# Altium schematic symbol library IoT-A28LI V1.00.SCHLIB: 49 symbols
Pins are listed as number, name and electrical type; pins without a type are passive.

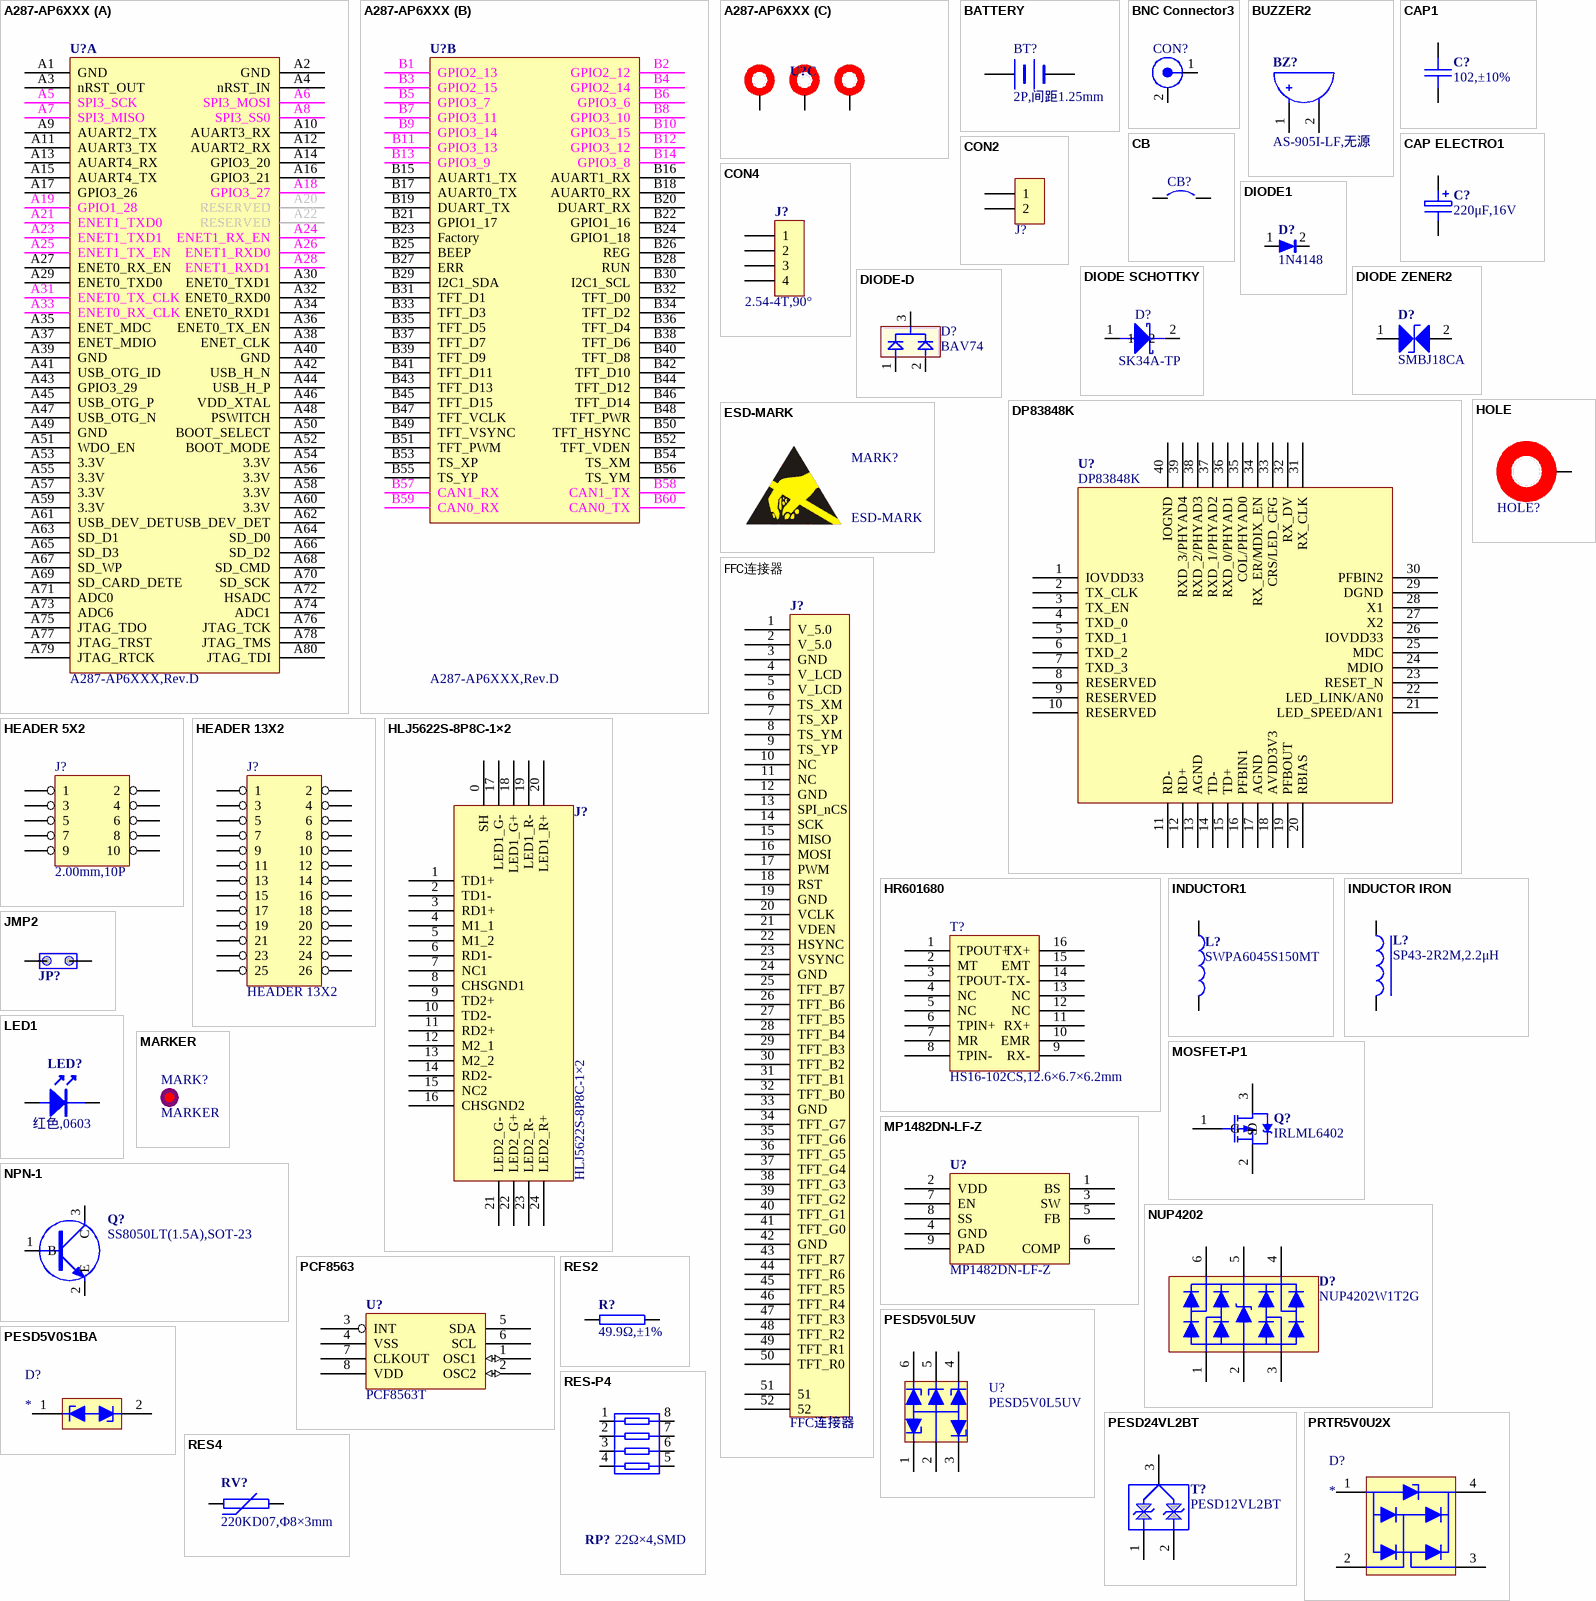
[diagram p0: symbols A287-AP6XXX to RES-P4]

## A287-AP6XXX
designator U?  value A287-AP6XXX,Rev.D  (hidden comment: A287-AP6XXX)
A287-AP6XXX,Rev.D,L6,1.6×30×48,F4-140,IG,1@3; 物料代码: 1.14.18.0163; 名称: PCB; RoHS: RoHS; 型号: A287-AP6XXX,Rev.D; 器件优选方案: *; ComponentLink1Description: ErpDataInfo; ComponentLink1URL: http://erp.zlgmcu.com/ErpExt/ErpData/ListMateriel.aspx?pkey=1.14.18.0163
footprint A287-AP6XXX (Rev.D)
part A pins: A1 GND, A2 GND, A3 nRST_OUT, A4 nRST_IN, A5 SPI3_SCK, A6 SPI3_MOSI, A7 SPI3_MISO, A8 SPI3_SS0, A9 AUART2_TX, A10 AUART3_RX, A11 AUART3_TX, A12 AUART2_RX, A13 AUART4_RX, A14 GPIO3_20, A15 AUART4_TX, A16 GPIO3_21, A17 GPIO3_26, A18 GPIO3_27, A19 GPIO1_28, A20 RESERVED, A21 ENET1_TXD0, A22 RESERVED, A23 ENET1_TXD1, A24 ENET1_RX_EN, A25 ENET1_TX_EN, A26 ENET1_RXD0, A27 ENET0_RX_EN, A28 ENET1_RXD1, A29 ENET0_TXD0, A30 ENET0_TXD1, A31 ENET0_TX_CLK, A32 ENET0_RXD0, A33 ENET0_RX_CLK, A34 ENET0_RXD1, A35 ENET_MDC, A36 ENET0_TX_EN, A37 ENET_MDIO, A38 ENET_CLK, A39 GND, A40 GND, A41 USB_OTG_ID, A42 USB_H_N, A43 GPIO3_29, A44 USB_H_P, A45 USB_OTG_P, A46 VDD_XTAL, A47 USB_OTG_N, A48 PSWITCH, A49 GND, A50 BOOT_SELECT, A51 WDO_EN, A52 BOOT_MODE, A53 3.3V, A54 3.3V, A55 3.3V, A56 3.3V, A57 3.3V, A58 3.3V, A59 3.3V, A60 3.3V, A61 USB_DEV_DET, A62 USB_DEV_DET, A63 SD_D1, A64 SD_D0, A65 SD_D3, A66 SD_D2, A67 SD_WP, A68 SD_CMD, A69 SD_CARD_DETE, A70 SD_SCK, A71 ADC0, A72 HSADC, A73 ADC6, A74 ADC1, A75 JTAG_TDO, A76 JTAG_TCK, A77 JTAG_TRST, A78 JTAG_TMS, A79 JTAG_RTCK, A80 JTAG_TDI
part B pins: B1 GPIO2_13, B2 GPIO2_12, B3 GPIO2_15, B4 GPIO2_14, B5 GPIO3_7, B6 GPIO3_6, B7 GPIO3_11, B8 GPIO3_10, B9 GPIO3_14, B10 GPIO3_15, B11 GPIO3_13, B12 GPIO3_12, B13 GPIO3_9, B14 GPIO3_8, B15 AUART1_TX, B16 AUART1_RX, B17 AUART0_TX, B18 AUART0_RX, B19 DUART_TX, B20 DUART_RX, B21 GPIO1_17, B22 GPIO1_16, B23 Factory, B24 GPIO1_18, B25 BEEP, B26 REG, B27 ERR, B28 RUN, B29 I2C1_SDA, B30 I2C1_SCL, B31 TFT_D1, B32 TFT_D0, B33 TFT_D3, B34 TFT_D2, B35 TFT_D5, B36 TFT_D4, B37 TFT_D7, B38 TFT_D6, B39 TFT_D9, B40 TFT_D8, B41 TFT_D11, B42 TFT_D10, B43 TFT_D13, B44 TFT_D12, B45 TFT_D15, B46 TFT_D14, B47 TFT_VCLK, B48 TFT_PWR, B49 TFT_VSYNC, B50 TFT_HSYNC, B51 TFT_PWM, B52 TFT_VDEN, B53 TS_XP, B54 TS_XM, B55 TS_YP, B56 TS_YM, B57 CAN1_RX, B58 CAN1_TX, B59 CAN0_RX, B60 CAN0_TX
part C pins: 1, 2, 3
2 alternate drawings of the same symbol

## BATTERY
designator BT?  value 2P,间距1.25mm  (hidden comment: BATTERY)
2P,间距1.25mm,Wafer凹槽边框,90°,FPC2-49T; 物料代码: 1.10.05.0096; 名称: 插座; 贴片和直插: SMT; 封装: FPC2-49T; 型号: 2P,间距1.25mm,Wafer凹槽边框,90°; ComponentLink1Description: ErpDataInfo; ComponentLink1URL: http://erp.zlgmcu.com/ErpExt/ErpData/ListMateriel.aspx?pkey=1.10.05.0096
footprint FPC2-49T
pins: 1 +, 2 -
2 alternate drawings of the same symbol

## BNC Connector3
designator CON?  (value not drawn)
SMAKWE母头转MM母头,L=100mm,不配垫片及螺帽; 物料代码: 1.12.02.0026; 名称: RF转接线; 贴片和直插: THT; Value: SMAKWE母头转MM母头,L=100mm; 型号: SMAKWE母头转MM母头,L=100mm,不配垫片及螺帽; ComponentLink1Description: ErpDataInfo; ComponentLink1URL: http://erp.zlgmcu.com/ErpExt/ErpData/ListMateriel.aspx?pkey=1.12.02.0026
footprint BNC1-5*5 (Wifi天线插座)
pins: 1, 2

## BUZZER2
designator BZ?  value AS-905I-LF,无源  (hidden comment: BUZZER2)
AS-905I-LF,无源,Ф9×4.8mm,常州立翔,RoHS; 物料代码: 1.06.09.0016; 名称: 讯响器; 厂商: 常州笠翔; 贴片和直插: THT; 器件优选方案: 禁止使用; RoHS: RoHS; 型号: AS-905I-LF,无源,Ф9×4.8mm; ComponentLink1Description: ErpDataInfo; ComponentLink1URL: http://erp.zlgmcu.com/ErpExt/ErpData/ListMateriel.aspx?pkey=1.06.09.0016
footprint BUZZ-.16/.36 (Footprint not found)
footprint BUZZ-4/9
pins: 1 A, 2 B
2 alternate drawings of the same symbol

## CAP1
designator C?, comment 102,±10%
102,±10%,2KV,X7R,1206,*,RoHS; 物料代码: 1.02.03.0003; 名称: 电容; 封装: 1206; 设备封装名称: C1206_102_X7R_2KV_10%; 贴片和直插: SMT; RoHS: RoHS; 型号: 102,±10%,2KV,X7R; ComponentLink1Description: ErpDataInfo; ComponentLink1URL: http://erp.zlgmcu.com/ErpExt/ErpData/ListMateriel.aspx?pkey=1.02.03.0003; Value: 102,±10%
footprint 1206C (元件 长X宽=120X60mil)
pins: 1, 2
2 alternate drawings of the same symbol

## CAP ELECTRO1
designator C?, comment 220μF,16V
220μF,16V,Ф6.3×7mm,,珠海华冠,RoHS; 物料代码: 1.02.11.0018; 名称: 电解电容; 贴片和直插: THT; PCB备注: Fcqh-Slq-Twrj-141216; 器件优选方案: 状态正常; 厂商: 珠海华冠; RoHS: RoHS; 型号: 220μF,16V,Ф6.3×7mm; ComponentLink1Description: ErpDataInfo; ComponentLink1URL: http://erp.zlgmcu.com/ErpExt/ErpData/ListMateriel.aspx?pkey=1.02.11.0018; Value: 220μF,16V
footprint CAPPRD250W45D630H800P
pins: 1, 2
2 alternate drawings of the same symbol

## CB
designator CB?  (no BOM)
footprint JUMP-2 (Footprint not found)
pins: 1, 2

## CON2
designator J?  (value not drawn)
2EDGR/2EDGK-5.08-2P,DEGSON; 物料代码: 1.10.06.0027; 名称: 端子; 贴片和直插: THT; Value: 2EDGR/2EDGK-5.08-2P; 厂商: DEGSON; 型号: 2EDGR/2EDGK-5.08-2P; ComponentLink1Description: ErpDataInfo; ComponentLink1URL: http://erp.zlgmcu.com/ErpExt/ErpData/ListMateriel.aspx?pkey=1.10.06.0027
footprint CON-2-5.08
pins: 1, 2
2 alternate drawings of the same symbol

## CON4
designator J?  value 2.54-4T,90°  (hidden comment: CON4)
2.54-4T,90°,RoHS; 物料代码: 1.10.06.0259; 名称: 插座; 贴片和直插: THT; PCB备注: xhm-lq-wyy-150128; RoHS: RoHS; 型号: 2.54-4T,90°; ComponentLink1Description: ErpDataInfo; ComponentLink1URL: http://erp.zlgmcu.com/ErpExt/ErpData/ListMateriel.aspx?pkey=1.10.06.0259
footprint CNC-4-2.5-D1.2
pins: 1, 2, 3, 4
2 alternate drawings of the same symbol

## DIODE1
designator D?  value 1N4148  (hidden comment: DIODE1)
1N4148,SOD-323,RoHS; 物料代码: 1.04.07.0027; 名称: 二极管; 设备封装名称: SOD-323_1N4148; 贴片和直插: SMT; 封装: SOD-323; RoHS: RoHS; 型号: 1N4148; ComponentLink1Description: ErpDataInfo; ComponentLink1URL: http://erp.zlgmcu.com/ErpExt/ErpData/ListMateriel.aspx?pkey=1.04.07.0027
footprint SOD-323
pins: 1, 2
2 alternate drawings of the same symbol

## DIODE SCHOTTKY
designator D?  value SK34A-TP  (hidden comment: DIODE SCHOTTKY)
肖特基二极管 快恢复二极管; 物料代码: 1.04.07.0021; 名称: 二极管; 规格型号: SK34A-TP,DO-214AC,MCC,RoHS; 厂商: MCC; 贴片和直插: SMT; 封装: DO-214AC; 设备封装名称: DO-214AC_SK34A; RoHS: RoHS; ComponentLink1Description: ErpDataInfo; ComponentLink1URL: http://erp.zlgmcu.com/ErpExt/ErpData/ListMateriel.aspx?pkey=1.04.07.0021; 型号: SK34A-TP
footprint SOD-SK34A
pins: 1, 2
2 alternate drawings of the same symbol

## DIODE ZENER2
designator D?  value SMBJ18CA  (hidden comment: DIODE ZENER2)
SMBJ18CA,DO-214AA,君耀,RoHS; 物料代码: 1.04.03.0004; 名称: TVS管; 设备封装名称: DO-214AA_SMBJ18CA; 贴片和直插: SMT; 器件优选方案: 样品物料,谨慎选用; 封装: DO-214AA; 厂商: 君耀; RoHS: RoHS; 型号: SMBJ18CA; ComponentLink1Description: ErpDataInfo; ComponentLink1URL: http://erp.zlgmcu.com/ErpExt/ErpData/ListMateriel.aspx?pkey=1.04.03.0004
footprint SOD-1812
pins: 1 A, 2 K
2 alternate drawings of the same symbol

## DIODE-D
designator D?  value BAV74  (hidden comment: DIODE-D)
BAV74,SOT-23,,RoHS; 物料代码: 1.04.07.0013; 名称: 双二极管; 设备封装名称: SOT-23_BAV74; 贴片和直插: SMT; 封装: SOT-23; RoHS: RoHS; 型号: BAV74; ComponentLink1Description: ErpDataInfo; ComponentLink1URL: http://erp.zlgmcu.com/ErpExt/ErpData/ListMateriel.aspx?pkey=1.04.07.0013
footprint SOT-23
pins: 1 D1, 2 D2, 3 A

## DP83848K
designator U?
DP83848KSQ/NoPB,WQFN-40,TI,RoHS; 物料代码: 1.05.08.0094; 名称: IC; 贴片和直插: SMT; 器件优选方案: 量产物料,优先选用; Value: DP83848KSQ/NoPB; 封装: WQFN-40; 厂商: TI; RoHS: RoHS; 型号: DP83848KSQ/NoPB; ComponentLink1Description: ErpDataInfo; ComponentLink1URL: http://erp.zlgmcu.com/ErpExt/ErpData/ListMateriel.aspx?pkey=1.05.08.0094
footprint QFN50P600X600X100-41N
pins: 1 IOVDD33, 2 TX_CLK, 3 TX_EN, 4 TXD_0, 5 TXD_1, 6 TXD_2, 7 TXD_3, 8 RESERVED, 9 RESERVED, 10 RESERVED, 11 RD-, 12 RD+, 13 AGND, 14 TD-, 15 TD+, 16 PFBIN1, 17 AGND, 18 AVDD3V3, 19 PFBOUT, 20 RBIAS, 21 LED_SPEED/AN1, 22 LED_LINK/AN0, 23 RESET_N, 24 MDIO, 25 MDC, 26 IOVDD33, 27 X2, 28 X1, 29 DGND, 30 PFBIN2, 31 RX_CLK, 32 RX_DV, 33 CRS/LED_CFG, 34 RX_ER/MDIX_EN, 35 COL/PHYAD0, 36 RXD_0/PHYAD1, 37 RXD_1/PHYAD2, 38 RXD_2/PHYAD3, 39 RXD_3/PHYAD4, 40 IOGND, 41 DAP hidden to GND

## ESD-MARK
designator MARK?
footprint ZY_ESD-7
2 alternate drawings of the same symbol

## FFC连接器
designator J?
0.5FFC-50S,上掀下接,掀盖式,H=2.0mm
footprint FFC0.5-50P-A
pins: 1 V_5.0, 2 V_5.0, 3 GND, 4 V_LCD, 5 V_LCD, 6 TS_XM, 7 TS_XP, 8 TS_YM, 9 TS_YP, 10 NC, 11 NC, 12 GND, 13 SPI_nCS, 14 SCK, 15 MISO, 16 MOSI, 17 PWM, 18 RST, 19 GND, 20 VCLK, 21 VDEN, 22 HSYNC, 23 VSYNC, 24 GND, 25 TFT_B7, 26 TFT_B6, 27 TFT_B5, 28 TFT_B4, 29 TFT_B3, 30 TFT_B2, 31 TFT_B1, 32 TFT_B0, 33 GND, 34 TFT_G7, 35 TFT_G6, 36 TFT_G5, 37 TFT_G4, 38 TFT_G3, 39 TFT_G2, 40 TFT_G1, 41 TFT_G0, 42 GND, 43 TFT_R7, 44 TFT_R6, 45 TFT_R5, 46 TFT_R4, 47 TFT_R3, 48 TFT_R2, 49 TFT_R1, 50 TFT_R0, 51, 52

## HEADER 5X2
designator J?  value 2.00mm,10P  (hidden comment: HEADER 5X2)
2.00mm,10P,180°,黑色; 物料代码: 1.10.04.0026; 名称: 简易牛角座; 贴片和直插: THT; 型号: 2.00mm,10P,180°,黑色; ComponentLink1Description: ErpDataInfo; ComponentLink1URL: http://erp.zlgmcu.com/ErpExt/ErpData/ListMateriel.aspx?pkey=1.10.04.0026
footprint IDE-10-2.0 (IDC-10-2.0IDE)
pins: 1, 2, 3, 4, 5, 6, 7, 8, 9, 10
2 alternate drawings of the same symbol

## HEADER 13X2
designator J?
footprint IDC-26
pins: 1, 2, 3, 4, 5, 6, 7, 8, 9, 10, 11, 12, 13, 14, 15, 16, 17, 18, 19, 20, 21, 22, 23, 24, 25, 26
2 alternate drawings of the same symbol

## HLJ5622S-8P8C-1×2
designator J?
footprint RJ45-5622ST-8P8C-1*2
pins: 0 SH, 1 TD1+, 2 TD1-, 3 RD1+, 4 M1_1, 5 M1_2, 6 RD1-, 7 NC1, 8 CHSGND1, 9 TD2+, 10 TD2-, 11 RD2+, 12 M2_1, 13 M2_2, 14 RD2-, 15 NC2, 16 CHSGND2, 17 LED1_G-, 18 LED1_G+, 19 LED1_R-, 20 LED1_R+, 21 LED2_G-, 22 LED2_G+, 23 LED2_R-, 24 LED2_R+

## HOLE
designator HOLE?  (value not drawn)
footprint HOLE-2.2
footprint HOLE-2.7
footprint HOLE-3.2
footprint HOLE-3.8
pins: 1

## HR601680
designator T?  value HS16-102CS,12.6×6.7×6.2mm  (hidden comment: HR601680)
HS16-102CS,12.6×6.7×6.2mm,SOP-16,RoHS; 物料代码: 1.06.06.0006; 名称: 网络变压器; 设备封装名称: SOP-16_MS10232NL_12.6x6.7x5.5; 贴片和直插: SMT; 封装: SOP-16; RoHS: RoHS; 型号: HS16-102CS,12.6×6.7×6.2mm; ComponentLink1Description: ErpDataInfo; ComponentLink1URL: http://erp.zlgmcu.com/ErpExt/ErpData/ListMateriel.aspx?pkey=1.06.06.0006
footprint TRAN16-12R2X7X5R5-SM (121026 外框改长lishibing)
pins: 1 TPOUT+, 2 MT, 3 TPOUT-, 4 NC, 5 NC, 6 TPIN+, 7 MR, 8 TPIN-, 9 RX-, 10 EMR, 11 RX+, 12 NC, 13 NC, 14 TX-, 15 EMT, 16 TX+

## INDUCTOR1
designator L?  value SWPA6045S150MT  (hidden comment: INDUCTOR1)
SWPA6045S150MT,6045,Sunlord,RoHS; 物料代码: 1.03.01.0277; 名称: 电感; 封装: 6045; 贴片和直插: SMT; PCB备注: pcb150711lmd; 器件优选方案: 样品物料,谨慎选用; 厂商: Sunlord; RoHS: RoHS; 型号: SWPA6045S150MT; ComponentLink1Description: ErpDataInfo; ComponentLink1URL: http://erp.zlgmcu.com/ErpExt/ErpData/ListMateriel.aspx?pkey=1.03.01.0277
footprint INDP6060X45A
pins: 1, 2
2 alternate drawings of the same symbol

## INDUCTOR IRON
designator L?  value SP43-2R2M,2.2μH  (hidden comment: INDUCTOR IRON)
SP43-2R2M,2.2μH,±20%,4.5×3.2mm,SMD,科达嘉,RoHS; 物料代码: 1.03.01.0024; 名称: 电感; 设备封装名称: SP43-2R2K_2.2uH_4.5x3.2; 贴片和直插: SMT; 封装: SMD; 厂商: 科达嘉; RoHS: RoHS; 型号: SP43-2R2M,2.2μH,±20%,4.5×3.2mm; 器件优选方案: *; ComponentLink1Description: ErpDataInfo; ComponentLink1URL: http://erp.zlgmcu.com/ErpExt/ErpData/ListMateriel.aspx?pkey=1.03.01.0024
footprint INDP4540X32
pins: 1, 2
2 alternate drawings of the same symbol

## JMP2
designator JP?, comment WDT_DIS  (value not drawn)
footprint 3 (Footprint not found)
footprint SIP-2
pins: 1, 2
2 alternate drawings of the same symbol

## LED1
designator LED?, comment value 红色,0603  (hidden comment: Error)
红色,0603,0603,*,RoHS; 物料代码: 1.04.05.0008; 名称: 发光二极管; 封装: 0603; 设备封装名称: LED0603-RED; 贴片和直插: SMT; 器件优选方案: 优先选用; RoHS: RoHS; 型号: 红色,0603; ComponentLink1Description: ErpDataInfo; ComponentLink1URL: http://erp.zlgmcu.com/ErpExt/ErpData/ListMateriel.aspx?pkey=1.04.05.0008
footprint LED-0603
pins: 1, 2
2 alternate drawings of the same symbol

## MARKER
designator MARK?
footprint MARKER-C
footprint MARKER-S
pins: 0

## MOSFET-P1
designator Q?  value IRLML6402  (hidden comment: MOSFET-P1)
IRLML6402,SOT-23,IR,RoHS; 物料代码: 1.04.11.0011; 名称: 场效应管; 设备封装名称: SOT-23_IRLML6402; 贴片和直插: SMT; Published: 17-Sep-2003; DatasheetVersion: 10-Nov-2000; PackageVersion: 16-Sep-2002; PackageReference: SMD-0.5; Publisher: Altium Limited; PackageDescription: SM; 3 Leadless Terminals; Body 10.28 x 7.64 x 3.06 mm (LxWxH); ComponentLink1Description: ErpDataInfo; ComponentLink1URL: http://erp.zlgmcu.com/ErpExt/ErpData/ListMateriel.aspx?pkey=1.04.11.0011; ComponentLink2Description: Datasheet; ComponentLink2URL: http://www.irf.com/product-info/datasheets/data/irf5nj5305.pdf; 封装: SOT-23; 厂商: IR; RoHS: RoHS; 型号: IRLML6402
footprint SOT-23
pins: 1 G, 2 S, 3 D

## MP1482DN-LF-Z
designator U?
MP1482DN-LF-Z,SO-8,MPS,RoHS; 物料代码: 1.05.10.0472; 名称: IC; 设备封装名称: SO-8_MP1482DN; 贴片和直插: SMT; Value: MP1482DN-LF-Z; 封装: SO-8; 厂商: MPS; RoHS: RoHS; 型号: MP1482DN-LF-Z; ComponentLink1Description: ErpDataInfo; ComponentLink1URL: http://erp.zlgmcu.com/ErpExt/ErpData/ListMateriel.aspx?pkey=1.05.10.0472
footprint SOIC127P600X175-9N
footprint SOIC127P600X175-9N-226X315
pins: 1 BS, 2 VDD, 3 SW, 4 GND, 5 FB, 6 COMP, 7 EN, 8 SS, 9 PAD

## NPN-1
designator Q?  value SS8050LT(1.5A),SOT-23  (hidden comment: NPN-1)
SS8050LT(1.5A),SOT-23,江苏长电,RoHS; 物料代码: 1.04.09.0001; 名称: 三极管; 设备封装名称: SOT-23_SS8050LT; 贴片和直插: SMT; 封装: SOT-23; 厂商: 江苏长电; RoHS: RoHS; 型号: SS8050LT(1.5A),SOT-23,江苏长电,RoHS; ComponentLink1Description: ErpDataInfo; ComponentLink1URL: http://erp.zlgmcu.com/ErpExt/ErpData/ListMateriel.aspx?pkey=1.04.09.0001
footprint SOT-23
pins: 1 B, 2 E, 3 C
2 alternate drawings of the same symbol

## NUP4202
designator D?, comment value NUP4202W1T2G  (hidden comment: NUP4202W1)
NUP4202W1T2G,SC-88,ON,RoHS; 物料代码: 1.05.10.0376; 名称: IC; 贴片和直插: SMT; 封装: SC-88; 厂商: ON; RoHS: RoHS; 型号: NUP4202W1T2G; 器件优选方案: *; ComponentLink1Description: ErpDataInfo; ComponentLink1URL: http://erp.zlgmcu.com/ErpExt/ErpData/ListMateriel.aspx?pkey=1.05.10.0376
footprint SOT-363
pins: 1, 2, 3, 4, 5, 6

## PCF8563
designator U?  value PCF8563T  (hidden comment: PCF8563)
PCF8563T,SO-8,NXP,RoHS; 物料代码: 1.05.10.0074; 名称: IC; 设备封装名称: SO-8_PCF8563T; 贴片和直插: SMT; 封装: SO-8; 厂商: NXP; RoHS: RoHS; 型号: PCF8563T; ComponentLink1Description: ErpDataInfo; ComponentLink1URL: http://erp.zlgmcu.com/ErpExt/ErpData/ListMateriel.aspx?pkey=1.05.10.0074
footprint SOIC127P600X175-8N
pins: 1 OSC1 (io), 2 OSC2 (io), 3 INT, 4 VSS, 5 SDA (oc), 6 SCL, 7 CLKOUT (oc), 8 VDD (power)
2 alternate drawings of the same symbol

## PESD5V0L5UV
designator U?
PESD5V0L5UV,SOT-666,NXP,RoHS; 物料代码: 1.05.10.0189; 名称: IC; 设备封装名称: SOT-666_PESD5V0L5UV; 贴片和直插: SMT; 封装: SOT-666; 厂商: NXP; RoHS: RoHS; 型号: PESD5V0L5UV; ComponentLink1Description: ErpDataInfo; ComponentLink1URL: http://erp.zlgmcu.com/ErpExt/ErpData/ListMateriel.aspx?pkey=1.05.10.0189; Value: PESD5V0L5UV
footprint SOT-666
pins: 1, 2, 3, 4, 5, 6
2 alternate drawings of the same symbol

## PESD5V0S1BA
designator D?
footprint SOD-323
pins: 1, 2

## PESD24VL2BT
designator T?  value PESD12VL2BT  (hidden comment: PESD24VL2BT)
PESD12VL2BT,SOT-23,NXP,RoHS; 物料代码: 1.05.10.0216; 名称: IC; 设备封装名称: SOT-23_PESD12VL2BT; 贴片和直插: SMT; 封装: SOT-23; 厂商: NXP; RoHS: RoHS; 型号: PESD12VL2BT; ComponentLink1Description: ErpDataInfo; ComponentLink1URL: http://erp.zlgmcu.com/ErpExt/ErpData/ListMateriel.aspx?pkey=1.05.10.0216
footprint SOT-23
pins: 1, 2, 3

## PRTR5V0U2X
designator D?
footprint SOT-143
pins: 1, 2, 3, 4

## RES2
designator R?, comment 49.9Ω,±1%
49.9Ω,±1%,0402,RALEC,RoHS; 物料代码: 1.01.17.0015; 名称: 电阻; 封装: 0402; 设备封装名称: R0402_49.9R_1%; 贴片和直插: SMT; 厂商: RALEC; RoHS: RoHS; 型号: 49.9Ω,±1%; ComponentLink1Description: ErpDataInfo; ComponentLink1URL: http://erp.zlgmcu.com/ErpExt/ErpData/ListMateriel.aspx?pkey=1.01.17.0015; Value: 49.9Ω,±1%
footprint 0402R
pins: 1, 2
2 alternate drawings of the same symbol

## RES4
designator RV?, comment 220KD07,Ф8×3mm
220KD07,Ф8×3mm,RoHS; 物料代码: 1.01.13.0001; 名称: 压敏电阻; 贴片和直插: THT; RoHS: RoHS; 型号: 220KD07,Ф8×3mm; ComponentLink1Description: ErpDataInfo; ComponentLink1URL: http://erp.zlgmcu.com/ErpExt/ErpData/ListMateriel.aspx?pkey=1.01.13.0001; Value: 220KD07,Ф8×3mm
footprint AX-5P-9DX4.6T
pins: 1, 2

## RES-P4
designator RP?, comment 22Ω×4,SMD
22Ω×4,SMD,0402-8P4R,*,RoHS; 物料代码: 1.01.04.0010; 名称: 网络电阻; 设备封装名称: 22R_4_0402; 贴片和直插: SMT; 封装: 0402-8P4R; RoHS: RoHS; 型号: 22Ω×4,SMD; ComponentLink1Description: ErpDataInfo; ComponentLink1URL: http://erp.zlgmcu.com/ErpExt/ErpData/ListMateriel.aspx?pkey=1.01.04.0010; Value: 22Ω×4,SMD
footprint 0402RA
pins: 1, 2, 3, 4, 5, 6, 7, 8
2 alternate drawings of the same symbol

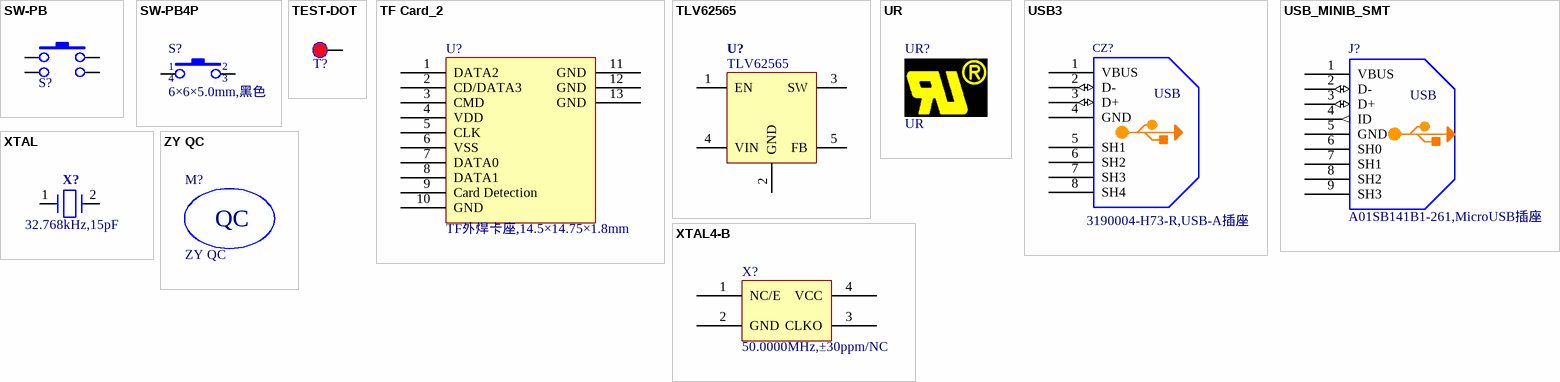
[diagram p1: symbols SW-PB to ZY QC]

## SW-PB
designator S?, comment RST  (value not drawn)  (no BOM)
7.3×4.25×5mm,侧卧式; 名称: 轻触按键; 型号: 7.3×4.25×5mm,侧卧式
footprint TD15EA
footprint Key-TS (Footprint not found)
pins: 1, 2, 3, 4
2 alternate drawings of the same symbol

## SW-PB4P
designator S?  value 6×6×5.0mm,黑色  (hidden comment: SW-PB4P)
6×6×5.0mm,黑色,SMD,,*; 物料代码: 1.09.01.0003; 名称: 轻触按键; 贴片和直插: SMT; 型号: 6×6×5.0mm,黑色,SMD; ComponentLink1Description: ErpDataInfo; ComponentLink1URL: http://erp.zlgmcu.com/ErpExt/ErpData/ListMateriel.aspx?pkey=1.09.01.0003
footprint KEY-6S
pins: 1, 2, 3, 4
2 alternate drawings of the same symbol

## TEST-DOT
designator T?, comment 4.2V  (value not drawn)
footprint PAD-40 (TEST-P)
footprint PAD-50 (TEST-P)
footprint PAD-25/40
footprint PAD-35/50
pins: 1

## TF Card_2
designator U?  value TF外焊卡座,14.5×14.75×1.8mm  (hidden comment: TF Card_2)
TF外焊卡座,14.5×14.75×1.8mm,SMD; 物料代码: 1.10.01.0124; 名称: TF 卡座; 贴片和直插: SMT; 封装: SMD; RoHS: RoHS; 型号: TF外焊卡座,14.5×14.75×1.8mm; ComponentLink1Description: ErpDataInfo; ComponentLink1URL: http://erp.zlgmcu.com/ErpExt/ErpData/ListMateriel.aspx?pkey=1.10.01.0124
footprint TFCARD
pins: 1 DATA2, 2 CD/DATA3, 3 CMD, 4 VDD, 5 CLK, 6 VSS, 7 DATA0, 8 DATA1, 9 Card Detection, 10 GND, 11 GND, 12 GND, 13 GND

## TLV62565
designator U?
TLV62565,RoHS; 物料代码: 1.05.09.0206; 名称: IC; 贴片和直插: SMT; 器件优选方案: 样品物料,谨慎选用; Value: TLV62565; RoHS: RoHS; 型号: TLV62565; ComponentLink1Description: ErpDataInfo; ComponentLink1URL: http://erp.zlgmcu.com/ErpExt/ErpData/ListMateriel.aspx?pkey=1.05.09.0206
footprint SOT-23-5
pins: 1 EN, 2 GND, 3 SW, 4 VIN, 5 FB

## UR
designator UR?
footprint ZY_UR-3X2
footprint ZY_UR-4X3

## USB3
designator CZ?, comment value 3190004-H73-R,USB-A插座  (hidden comment: USB)
3190004-H73-R,USB-A插座,立式,90°,THT,WCON,RoHS; Text Field1: 50; Text Field2: 60; 物料代码: 1.10.12.0012; 名称: USB插座(临时); 封装: THT; 厂商: WCON; RoHS: RoHS; 型号: 3190004-H73-R,USB-A插座,立式,90°; 贴片和直插: THT; ComponentLink1Description: ErpDataInfo; ComponentLink1URL: http://erp.zlgmcu.com/ErpExt/ErpData/ListMateriel.aspx?pkey=1.10.12.0012
footprint USB-A-C
pins: 1 VBUS, 2 D- (io), 3 D+ (io), 4 GND, 5 SH1, 6 SH2, 7 SH3, 8 SH4
2 alternate drawings of the same symbol

## USB_MINIB_SMT
designator J?  value A01SB141B1-261,MicroUSB插座  (hidden comment: USB_MINIB_SMT)
A01SB141B1-261,MicroUSB插座,SMT,艾立信,RoHS; Text Field1: 100; Text Field2: 80; 物料代码: 1.10.12.0014; PCB备注: 141030lmd; 器件优选方案: 样品物料,谨慎选用; 名称: MicroUSB插座; 封装: SMT; 厂商: 艾立信; RoHS: RoHS; 型号: A01SB141B1-261,MicroUSB插座; 贴片和直插: SMT; ComponentLink1Description: ErpDataInfo; ComponentLink1URL: http://erp.zlgmcu.com/ErpExt/ErpData/ListMateriel.aspx?pkey=1.10.12.0014
footprint MICROUSB-5S
pins: 1 VBUS, 2 D- (io), 3 D+ (io), 4 ID (out), 5 GND, 6 SH0, 7 SH1, 8 SH2, 9 SH3
text: USB

## XTAL
designator X?  value 32.768kHz,15pF  (hidden comment: XTAL)
32.768kHz,15pF,±12.5ppm,SMD3215,EPSON,RoHS; 物料代码: 1.07.02.0056; 名称: 晶体(临时); 贴片和直插: SMT; 器件优选方案: 样品物料,谨慎选用; 封装: SMD3215; 厂商: EPSON; RoHS: RoHS; 型号: 32.768kHz,15pF,±12.5ppm; ComponentLink1Description: ErpDataInfo; ComponentLink1URL: http://erp.zlgmcu.com/ErpExt/ErpData/ListMateriel.aspx?pkey=1.07.02.0056
footprint XTAL2-3.2X1.5
pins: 1, 2

## XTAL4-B
designator X?  value 50.0000MHz,±30ppm/NC  (hidden comment: XTAL4-B)  (no BOM)
50.0000MHz,±30ppm,3.3V,OE,-40~85℃,SMD5032,,RoHS; 物料代码: 1.07.03.0037; 名称: 晶体振荡器; 贴片和直插: SMT; 封装: SMD5032; RoHS: RoHS; 型号: 50.0000MHz,±30ppm,3.3V,OE,-40~85℃; ComponentLink1Description: ErpDataInfo; ComponentLink1URL: http://erp.zlgmcu.com/ErpExt/ErpData/ListMateriel.aspx?pkey=1.07.03.0037
footprint XTAL4-5X3A
pins: 1 NC/E, 2 GND, 3 CLKO, 4 VCC

## ZY QC
designator M?  (no BOM)
footprint ZY_QC
text: QC